# EAGLE library part TC2050-NL (library TPM)
TAG-CONNECT ISP Connector Manufacturer: Tag-Connect <www.tag-connect.com> Cable for easy In-Circuit PCB Programming. Designed for JTAG 10 pin, suitable for many others. Pin Connection for TC2050 NL. PAD Description 1 VTREF 2 TMS 3 GND 4 TCK 5 NC 6 TDO 7 RTCK 8 TDI 9 !TRST 10 RESET ©2009 ROFA.cz Modified 7/2011 by Tim McCarthy-Smith VIDA Products INC
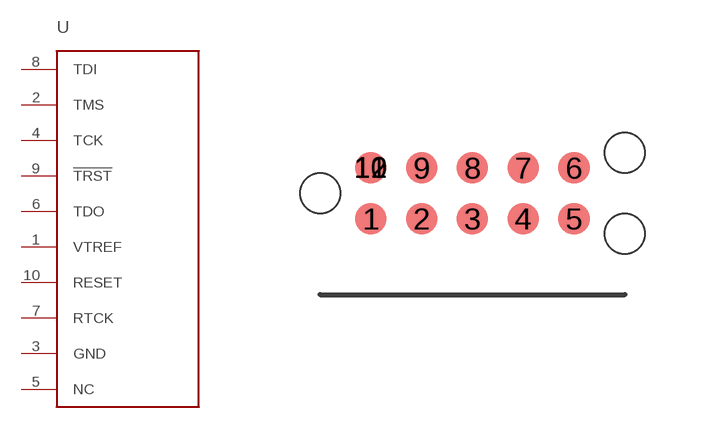
[diagram p2: symbol with the pads of TC2030-MCP-NL; footprint TC2030-MCP-NL]

Designator prefix -

## TC2050-NL-MCP-NL  [TC2030-MCP-NL]
1  VTREF
2  TMS
3  GND
4  TCK
5  NC
6  TDO
7  RTCK
8  TDI
9  !TRST
10  RESET

## Footprint TC2030-MCP-NL (pad centres in mm)
TAG-CONNECT ISP Connector Manufacturer: Tag-Connect <www.tag-connect.com> Cable for easy In-Circuit PCB Programming. Designed for Standard JTAG 10 Pin, suitable for many others. Footprint for TC2050 NL PAD Description 1 VTREF 2 nTRST 3 TDI 4 TMS 5 TCK 6 RTCK 7 TDO 8 RESET 9 GND 10 NC ©2009 ROFA.cz Modified 7/2011 by Tim McCarthy-Smith VIDA Products INC
smd 0.787 x 0.787: 1 1.27,-0.635; 2 2.54,-0.635; 3 3.81,-0.635; 4 5.08,-0.635; 5 6.35,-0.635; 6 6.35,0.635; 7 5.08,0.635; 8 3.81,0.635; 9 2.54,0.635; 10 1.27,0.635; 11 1.27,0.635; 12 1.27,0.635
hole 1 at 0,0
hole 1 at 7.62,-1.016
hole 1 at 7.62,1.016